# EAGLE library part LCD_16X2 (library drag-custom)
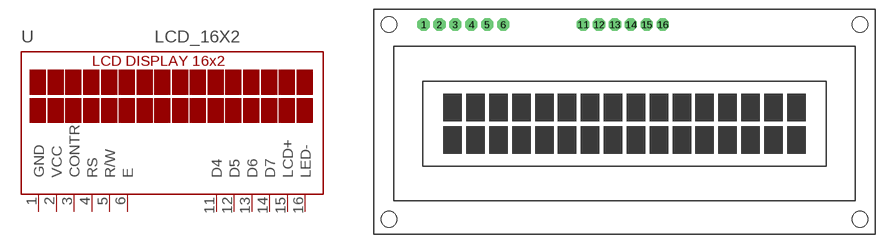
[diagram p8: symbol with the pads of LCD_16X2; footprint LCD_16X2]

Designator prefix -

## LCD_16X2  [LCD_16X2]
1  GND  pwr
2  VCC  pwr
3  CONTR  in
4  RS  in
5  R/W  in
6  E  in
11  D4  in
12  D5  in
13  D6  in
14  D7  in
15  LCD+  nc
16  LED-  nc

## Footprint LCD_16X2 (pad centres in mm)
drill 1 pad 1.93 octagon: 1 -32,15.5; 2 -29.46,15.5; 3 -26.92,15.5; 4 -24.38,15.5; 5 -21.84,15.5; 6 -19.3,15.5; 11 -6.6,15.5; 12 -4.06,15.5; 13 -1.52,15.5; 14 1.02,15.5; 15 3.56,15.5; 16 6.1,15.5
hole 2.5 at -37.5,-15.5
hole 2.5 at 37.5,-15.5
hole 2.5 at -37.5,15.5
hole 2.5 at 37.5,15.5